# Altium footprint library Button_Switch_SMD.PcbLib: 148 footprints (part 8 of 10)
Each footprint in its own frame and in the unit in brackets; x right, y up, seen from the top. Pads: shape width x height; smd on the part's side, far side on the other; paste and mask are expansions set on the pad; w line width, h text height; cw(c..) or ccw(c..) is an arc to the next point about the centre after c.
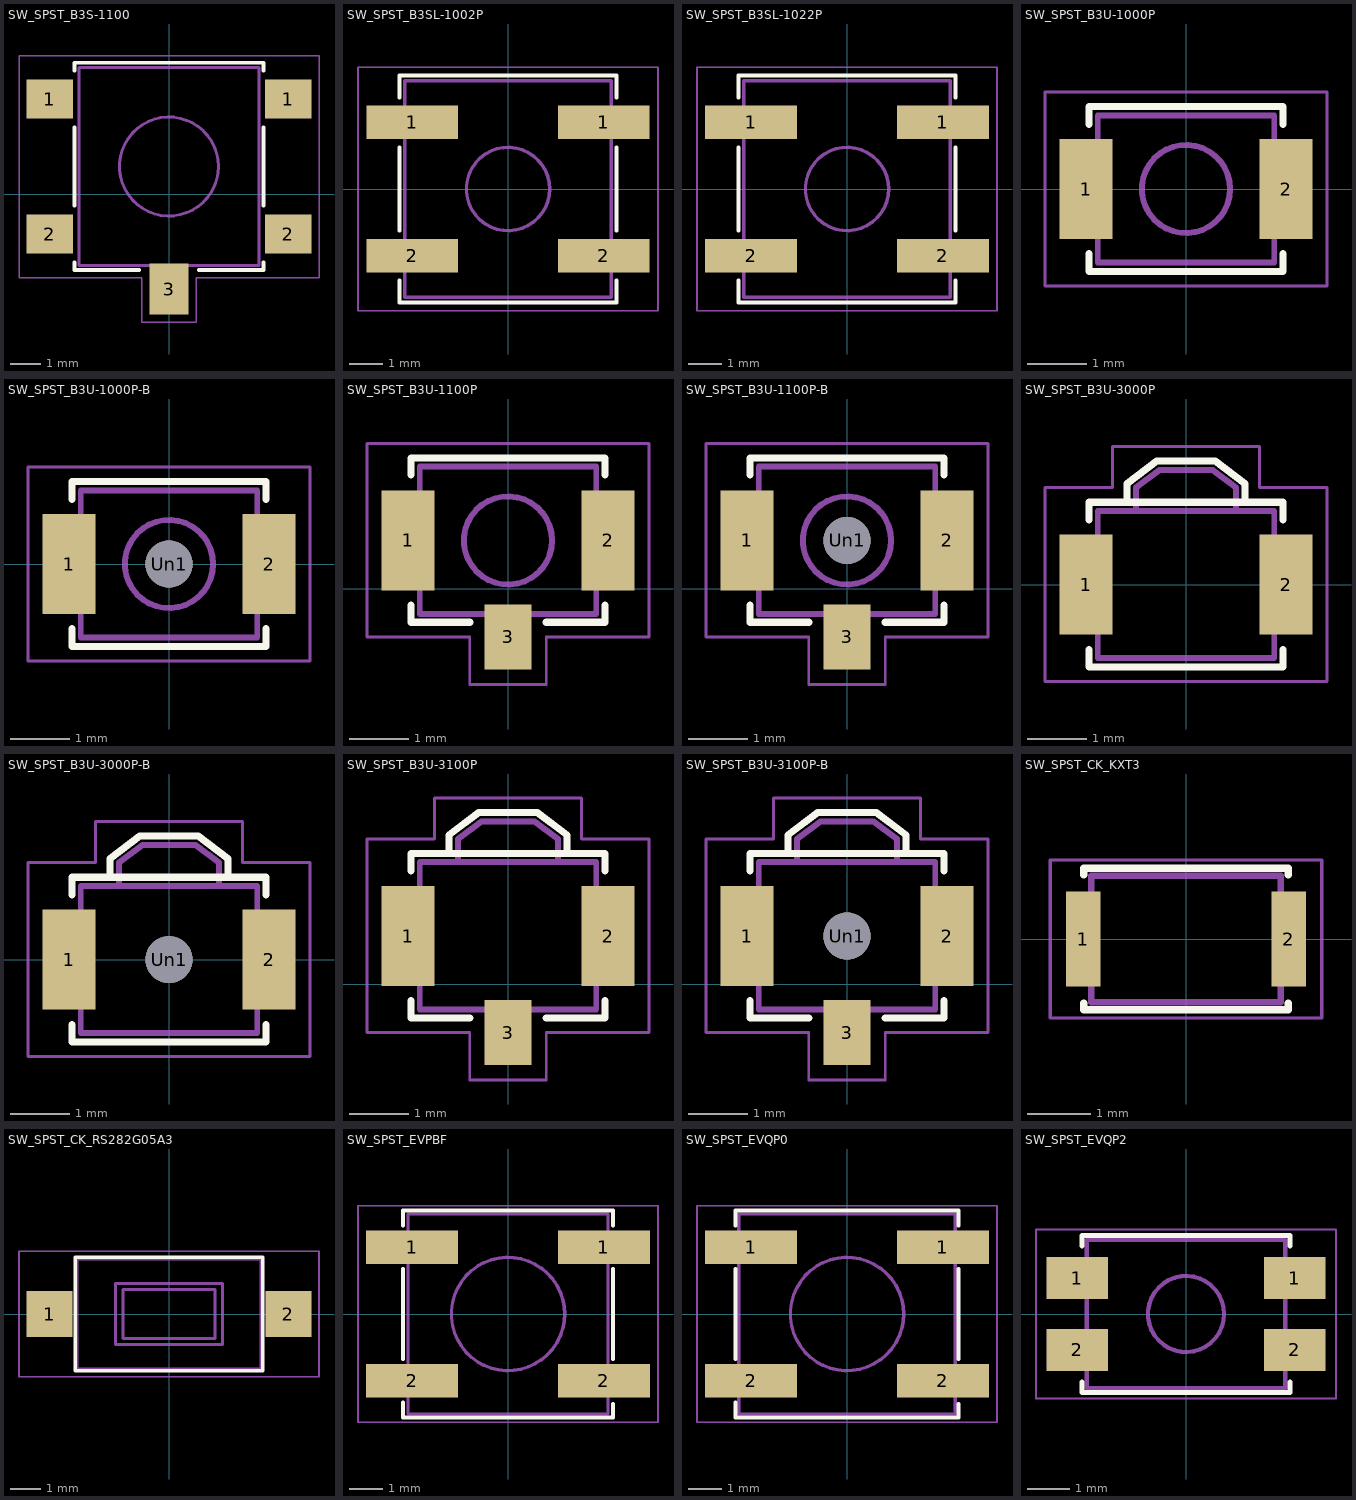
[diagram p7: the footprints below, top view; thin cyan lines are the x and y axes]

## SW_SPST_B3S-1100 [mm]
pads (5):
  rect 1.55x1.3 smd: 1(-3.98,3.17) 1(3.98,3.17) 2(-3.98,-1.33) 2(3.98,-1.33)
  rect 1.3x1.7 smd: 3(0,-3.17)
F.SilkS:
  lines w0.12: -3.15,-2.28 -3.15,-2.53 -1,-2.53 ; -3.15,-0.38 -3.15,2.22 ; -3.15,4.12 -3.15,4.38 3.15,4.38 3.15,4.12 ; 1,-2.53 3.15,-2.53 3.15,-2.28 ; 3.15,-0.38 3.15,2.22
F.CrtYd:
  lines w0.05: -5,-2.78 -0.9,-2.78 -0.9,-4.28 0.9,-4.28 0.9,-2.78 5,-2.78 5,4.62 -5,4.62 -5,-2.78
F.Fab:
  circle w0.1: c0,0.92 r1.65
  lines w0.1: -3,-2.38 3,-2.38 3,4.22 -3,4.22 -3,-2.38
  text "'.Designator'" at -4.047,4.58 h1

## SW_SPST_B3SL-1002P [mm]
pads (4):
  rect 2.75x1 smd: 1(-2.875,2) 1(2.875,2) 2(-2.875,-2) 2(2.875,-2)
F.SilkS:
  lines w0.12: -3.25,-2.75 -3.25,-3.4 3.25,-3.4 3.25,-2.75 ; -3.25,-1.25 -3.25,1.25 ; -3.25,2.75 -3.25,3.4 3.25,3.4 3.25,2.75 ; 3.25,-1.25 3.25,1.25
F.CrtYd:
  lines w0.05: -4.5,-3.65 -4.5,3.65 4.5,3.65 4.5,-3.65 -4.5,-3.65
F.Fab:
  circle w0.1: c0,0 r1.25
  lines w0.1: -3.1,-3.25 -3.1,3.25 3.1,3.25 3.1,-3.25 -3.1,-3.25
  text "'.Designator'" at -4.047,3.66 h1

## SW_SPST_B3SL-1022P [mm]
pads (4):
  rect 2.75x1 smd: 1(-2.88,2) 1(2.88,2) 2(-2.88,-2) 2(2.88,-2)
F.SilkS:
  lines w0.12: -3.25,-2.75 -3.25,-3.4 3.25,-3.4 3.25,-2.75 ; -3.25,-1.25 -3.25,1.25 ; -3.25,2.75 -3.25,3.4 3.25,3.4 3.25,2.75 ; 3.25,-1.25 3.25,1.25
F.CrtYd:
  lines w0.05: -4.5,-3.65 4.5,-3.65 4.5,3.65 -4.5,3.65 -4.5,-3.65
F.Fab:
  circle w0.1: c0,0 r1.25
  lines w0.1: -3.1,-3.25 3.1,-3.25 3.1,3.25 -3.1,3.25 -3.1,-3.25
  text "'.Designator'" at -4.047,3.66 h1

## SW_SPST_B3U-1000P [mm]
pads (2):
  rect 0.9x1.7 smd: 1(-1.7,0) 2(1.7,0)
F.SilkS:
  lines w0.12: -1.65,-1.1 -1.65,-1.4 1.65,-1.4 1.65,-1.1 ; -1.65,1.1 -1.65,1.4 1.65,1.4 1.65,1.1
F.CrtYd:
  lines w0.05: -2.4,-1.65 2.4,-1.65 2.4,1.65 -2.4,1.65 -2.4,-1.65
F.Fab:
  circle w0.1: c0,0 r0.75
  lines w0.1: -1.5,-1.25 -1.5,1.25 1.5,1.25 1.5,-1.25 -1.5,-1.25
  text "'.Designator'" at -4.047,1.66 h1

## SW_SPST_B3U-1000P-B [mm]
pads (3):
  rect 0.9x1.7 smd: 1(-1.7,0) 2(1.7,0)
  round 0.8 hole 0.8: Un1(0,0)
F.SilkS:
  lines w0.12: -1.65,-1.1 -1.65,-1.4 1.65,-1.4 1.65,-1.1 ; -1.65,1.1 -1.65,1.4 1.65,1.4 1.65,1.1
F.CrtYd:
  lines w0.05: -2.4,-1.65 -2.4,1.65 2.4,1.65 2.4,-1.65 -2.4,-1.65
F.Fab:
  circle w0.1: c0,0 r0.75
  lines w0.1: -1.5,-1.25 1.5,-1.25 1.5,1.25 -1.5,1.25 -1.5,-1.25
  text "'.Designator'" at -4.047,1.66 h1

## SW_SPST_B3U-1100P [mm]
pads (3):
  rect 0.9x1.7 smd: 1(-1.7,0.82) 2(1.7,0.82)
  rect 0.8x1.1 smd: 3(0,-0.82)
F.SilkS:
  lines w0.12: -1.65,-0.28 -1.65,-0.57 -0.65,-0.57 ; -1.65,1.93 -1.65,2.22 1.65,2.22 1.65,1.93 ; 0.65,-0.57 1.65,-0.57 1.65,-0.28
F.CrtYd:
  lines w0.05: -2.4,-0.82 -0.65,-0.82 -0.65,-1.63 0.65,-1.63 0.65,-0.82 2.4,-0.82 2.4,2.47 -2.4,2.47 -2.4,-0.82
F.Fab:
  circle w0.1: c0,0.82 r0.75
  lines w0.1: -1.5,-0.43 1.5,-0.43 1.5,2.08 -1.5,2.08 -1.5,-0.43
  text "'.Designator'" at -4.047,2.46 h1

## SW_SPST_B3U-1100P-B [mm]
pads (4):
  rect 0.9x1.7 smd: 1(-1.7,0.82) 2(1.7,0.82)
  rect 0.8x1.1 smd: 3(0,-0.82)
  round 0.8 hole 0.8: Un1(0,0.82)
F.SilkS:
  lines w0.12: -1.65,-0.28 -1.65,-0.57 -0.65,-0.57 ; -1.65,1.93 -1.65,2.22 1.65,2.22 1.65,1.93 ; 0.65,-0.57 1.65,-0.57 1.65,-0.28
F.CrtYd:
  lines w0.05: -2.4,-0.82 -0.65,-0.82 -0.65,-1.63 0.65,-1.63 0.65,-0.82 2.4,-0.82 2.4,2.47 -2.4,2.47 -2.4,-0.82
F.Fab:
  circle w0.1: c0,0.82 r0.75
  lines w0.1: -1.5,-0.43 1.5,-0.43 1.5,2.08 -1.5,2.08 -1.5,-0.43
  text "'.Designator'" at -4.047,2.46 h1

## SW_SPST_B3U-3000P [mm]
pads (2):
  rect 0.9x1.7 smd: 1(-1.7,0) 2(1.7,0)
F.SilkS:
  lines w0.12: -1.65,-1.1 -1.65,-1.4 1.65,-1.4 1.65,-1.1 ; -1.65,1.1 -1.65,1.4 1.65,1.4 1.65,1.1 ; -1,1.4 -1,1.72 -0.5,2.1 0.5,2.1 1,1.72 1,1.4
F.CrtYd:
  lines w0.05: -2.4,-1.65 2.4,-1.65 2.4,1.65 1.25,1.65 1.25,2.35 -1.25,2.35 -1.25,1.65 -2.4,1.65 -2.4,-1.65
F.Fab:
  lines w0.1: -0.85,1.25 -0.85,1.65 -0.45,1.95 0.45,1.95 0.85,1.65 0.85,1.25 ; -1.5,-1.25 1.5,-1.25 1.5,1.25 -1.5,1.25 -1.5,-1.25
  text "'.Designator'" at -4.047,2.16 h1

## SW_SPST_B3U-3000P-B [mm]
pads (3):
  rect 0.9x1.7 smd: 1(-1.7,0) 2(1.7,0)
  round 0.8 hole 0.8: Un1(0,0)
F.SilkS:
  lines w0.12: -1.65,-1.1 -1.65,-1.4 1.65,-1.4 1.65,-1.1 ; -1.65,1.1 -1.65,1.4 1.65,1.4 1.65,1.1 ; -1,1.4 -1,1.72 -0.5,2.1 0.5,2.1 1,1.72 1,1.4
F.CrtYd:
  lines w0.05: -2.4,-1.65 -2.4,1.65 -1.25,1.65 -1.25,2.35 1.25,2.35 1.25,1.65 2.4,1.65 2.4,-1.65 -2.4,-1.65
F.Fab:
  lines w0.1: -0.85,1.25 -0.85,1.65 -0.45,1.95 0.45,1.95 0.85,1.65 0.85,1.25 ; -1.5,-1.25 1.5,-1.25 1.5,1.25 -1.5,1.25 -1.5,-1.25
  text "'.Designator'" at -4.047,2.26 h1

## SW_SPST_B3U-3100P [mm]
pads (3):
  rect 0.9x1.7 smd: 1(-1.7,0.82) 2(1.7,0.82)
  rect 0.8x1.1 smd: 3(0,-0.82)
F.SilkS:
  lines w0.12: -1.65,-0.28 -1.65,-0.57 -0.65,-0.57 ; -1.65,1.93 -1.65,2.22 1.65,2.22 1.65,1.93 ; -1,2.22 -1,2.54 -0.5,2.92 0.5,2.92 1,2.54 1,2.22 ; 0.65,-0.57 1.65,-0.57 1.65,-0.28
F.CrtYd:
  lines w0.05: -2.4,-0.82 -2.4,2.47 -1.25,2.47 -1.25,3.17 1.25,3.17 1.25,2.47 2.4,2.47 2.4,-0.82 0.65,-0.82 0.65,-1.63 -0.65,-1.63 -0.65,-0.82 -2.4,-0.82
F.Fab:
  lines w0.1: -0.85,2.08 -0.85,2.47 -0.45,2.77 0.45,2.77 0.85,2.47 0.85,2.08 ; -1.5,-0.43 1.5,-0.43 1.5,2.08 -1.5,2.08 -1.5,-0.43
  text "'.Designator'" at -4.047,3.06 h1

## SW_SPST_B3U-3100P-B [mm]
pads (4):
  rect 0.9x1.7 smd: 1(-1.7,0.82) 2(1.7,0.82)
  rect 0.8x1.1 smd: 3(0,-0.82)
  round 0.8 hole 0.8: Un1(0,0.82)
F.SilkS:
  lines w0.12: -1.65,-0.28 -1.65,-0.57 -0.65,-0.57 ; -1.65,1.93 -1.65,2.22 1.65,2.22 1.65,1.93 ; -1,2.22 -1,2.54 -0.5,2.92 0.5,2.92 1,2.54 1,2.22 ; 0.65,-0.57 1.65,-0.57 1.65,-0.28
F.CrtYd:
  lines w0.05: -2.4,-0.82 -2.4,2.47 -1.25,2.47 -1.25,3.17 1.25,3.17 1.25,2.47 2.4,2.47 2.4,-0.82 0.65,-0.82 0.65,-1.63 -0.65,-1.63 -0.65,-0.82 -2.4,-0.82
F.Fab:
  lines w0.1: -0.85,2.08 -0.85,2.47 -0.45,2.77 0.45,2.77 0.85,2.47 0.85,2.08 ; -1.5,-0.43 -1.5,2.08 1.5,2.08 1.5,-0.43 -1.5,-0.43
  text "'.Designator'" at -4.047,3.06 h1

## SW_SPST_CK_KXT3 [mm]
pads (2):
  rect 0.55x1.5 smd: 1(-1.625,0) 2(1.625,0)
F.SilkS:
  lines w0.12: -1.62,-1.02 -1.62,-1.12 1.62,-1.12 1.62,-1.02 ; -1.62,1.02 -1.62,1.12 1.62,1.12 1.62,1.02
F.CrtYd:
  lines w0.05: -2.15,-1.25 -2.15,1.25 2.15,1.25 2.15,-1.25 -2.15,-1.25
F.Fab:
  lines w0.1: -1.5,-0.65 -1.75,-0.65 -1.75,-0.4 -1.5,-0.15 ; -1.5,0.15 -1.75,0.4 -1.75,0.65 -1.5,0.65 ; 1.5,-0.65 1.75,-0.65 1.75,-0.4 1.5,-0.15 ; 1.5,0.15 1.75,0.4 1.75,0.65 1.5,0.65 ; -1.5,-1 1.5,-1 1.5,1 -1.5,1 -1.5,-1
  text "'.Designator'" at -2.023,-0.42 h0.5

## SW_SPST_CK_RS282G05A3 [mm]
pads (2):
  rect 1.5x1.5 smd: 1(-3.9,0) 2(3.9,0)
F.SilkS:
  lines w0.12: -3.06,-1.85 -3.06,1.85 3.06,1.85 3.06,-1.85 -3.06,-1.85
F.CrtYd:
  lines w0.05: -4.9,-2.05 4.9,-2.05 4.9,2.05 -4.9,2.05 -4.9,-2.05
F.Fab:
  lines w0.1: -3,-1.8 -3,1.8 3,1.8 3,-1.8 -3,-1.8 ; -1.75,-1 -1.75,1 1.75,1 1.75,-1 -1.75,-1 ; -1.5,-0.8 1.5,-0.8 1.5,0.8 -1.5,0.8 -1.5,-0.8
  text "'.Designator'" at -4.047,1.76 h1

## SW_SPST_EVPBF [mm]
pads (4):
  rect 2.75x1 smd: 1(-2.88,2) 1(2.88,2) 2(-2.88,-2) 2(2.88,-2)
F.SilkS:
  lines w0.12: -3.15,-2.65 -3.15,-3.1 3.15,-3.1 3.15,-2.7 ; -3.15,-1.35 -3.15,1.35 ; -3.15,2.65 -3.15,3.1 3.15,3.1 3.15,2.65 ; 3.15,-1.35 3.15,1.35
F.CrtYd:
  lines w0.05: -4.5,-3.25 -4.5,3.25 4.5,3.25 4.5,-3.25 -4.5,-3.25
F.Fab:
  circle w0.1: c0,0 r1.7
  lines w0.1: -3,-3 3,-3 3,3 -3,3 -3,-3
  text "'.Designator'" at -4.047,3.06 h1

## SW_SPST_EVQP0 [mm]
pads (4):
  rect 2.75x1 smd: 1(-2.88,2) 1(2.88,2) 2(-2.88,-2) 2(2.88,-2)
F.SilkS:
  lines w0.12: -3.35,-2.65 -3.35,-3.1 3.35,-3.1 3.35,-2.7 ; -3.35,-1.35 -3.35,1.35 ; -3.35,2.65 -3.35,3.1 3.35,3.1 3.35,2.65 ; 3.35,-1.35 3.35,1.35
F.CrtYd:
  lines w0.05: -4.5,-3.25 4.5,-3.25 4.5,3.25 -4.5,3.25 -4.5,-3.25
F.Fab:
  circle w0.1: c0,0 r1.7
  lines w0.1: -3.25,-3 -3.25,3 3.25,3 3.25,-3 -3.25,-3
  text "'.Designator'" at -4.047,3.06 h1

## SW_SPST_EVQP2 [mm]
pads (4):
  rect 1.45x1 smd: 1(-2.575,0.85) 1(2.575,0.85) 2(-2.575,-0.85) 2(2.575,-0.85)
F.SilkS:
  lines w0.12: -2.46,-1.61 -2.46,-1.86 2.46,-1.86 2.46,-1.61 ; -2.46,1.61 -2.46,1.86 2.46,1.86 2.46,1.61
F.CrtYd:
  lines w0.05: -3.55,-2 -3.55,2 3.55,2 3.55,-2 -3.55,-2
F.Fab:
  circle w0.1: c0,0 r0.9
  lines w0.1: -2.35,-1.75 -2.35,1.75 2.35,1.75 2.35,-1.75 -2.35,-1.75
  text "'.Designator'" at -4.047,-0.84 h1